# EAGLE library part M24 (library radio-tracker)
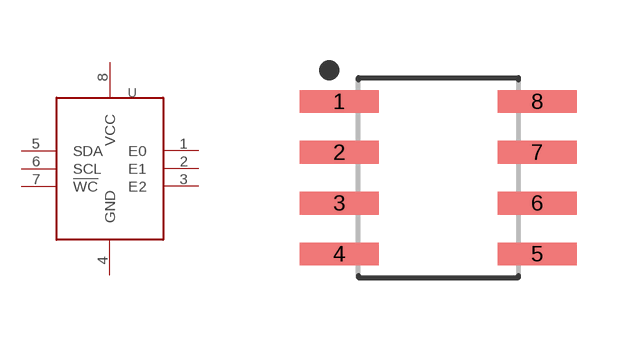
[diagram p9: symbol with the pads of M24; footprint M24]

Designator prefix U

## M24  [M24]
1  E0  in
2  E1  in
3  E2  in
4  GND  pas
5  SDA
6  SCL  in
7  !WC  in
8  VCC  pwr

## Footprint M24 (pad centres in mm)
8-SOIC, 1.27 mm pitch, 6.00 mm span, 4.90 X 3.90 X 1.75 mm body 8-pin SOIC package with 1.27 mm pitch, 6.00 mm span with body size 4.90 X 3.90 X 1.75 mm
smd 1.968 x 0.569: 1 -2.473,1.905; 2 -2.473,0.635; 3 -2.473,-0.635; 4 -2.473,-1.905; 5 2.473,-1.905; 6 2.473,-0.635; 7 2.473,0.635; 8 2.473,1.905